# Altium footprint library Smoothie_new_12_02.PcbLib: 39 footprints (part 1 of 3)
Each footprint in its own frame and in the unit in brackets; x right, y up, seen from the top. Pads: shape width x height; smd on the part's side, far side on the other; paste and mask are expansions set on the pad; w line width, h text height; cw(c..) or ccw(c..) is an arc to the next point about the centre after c.
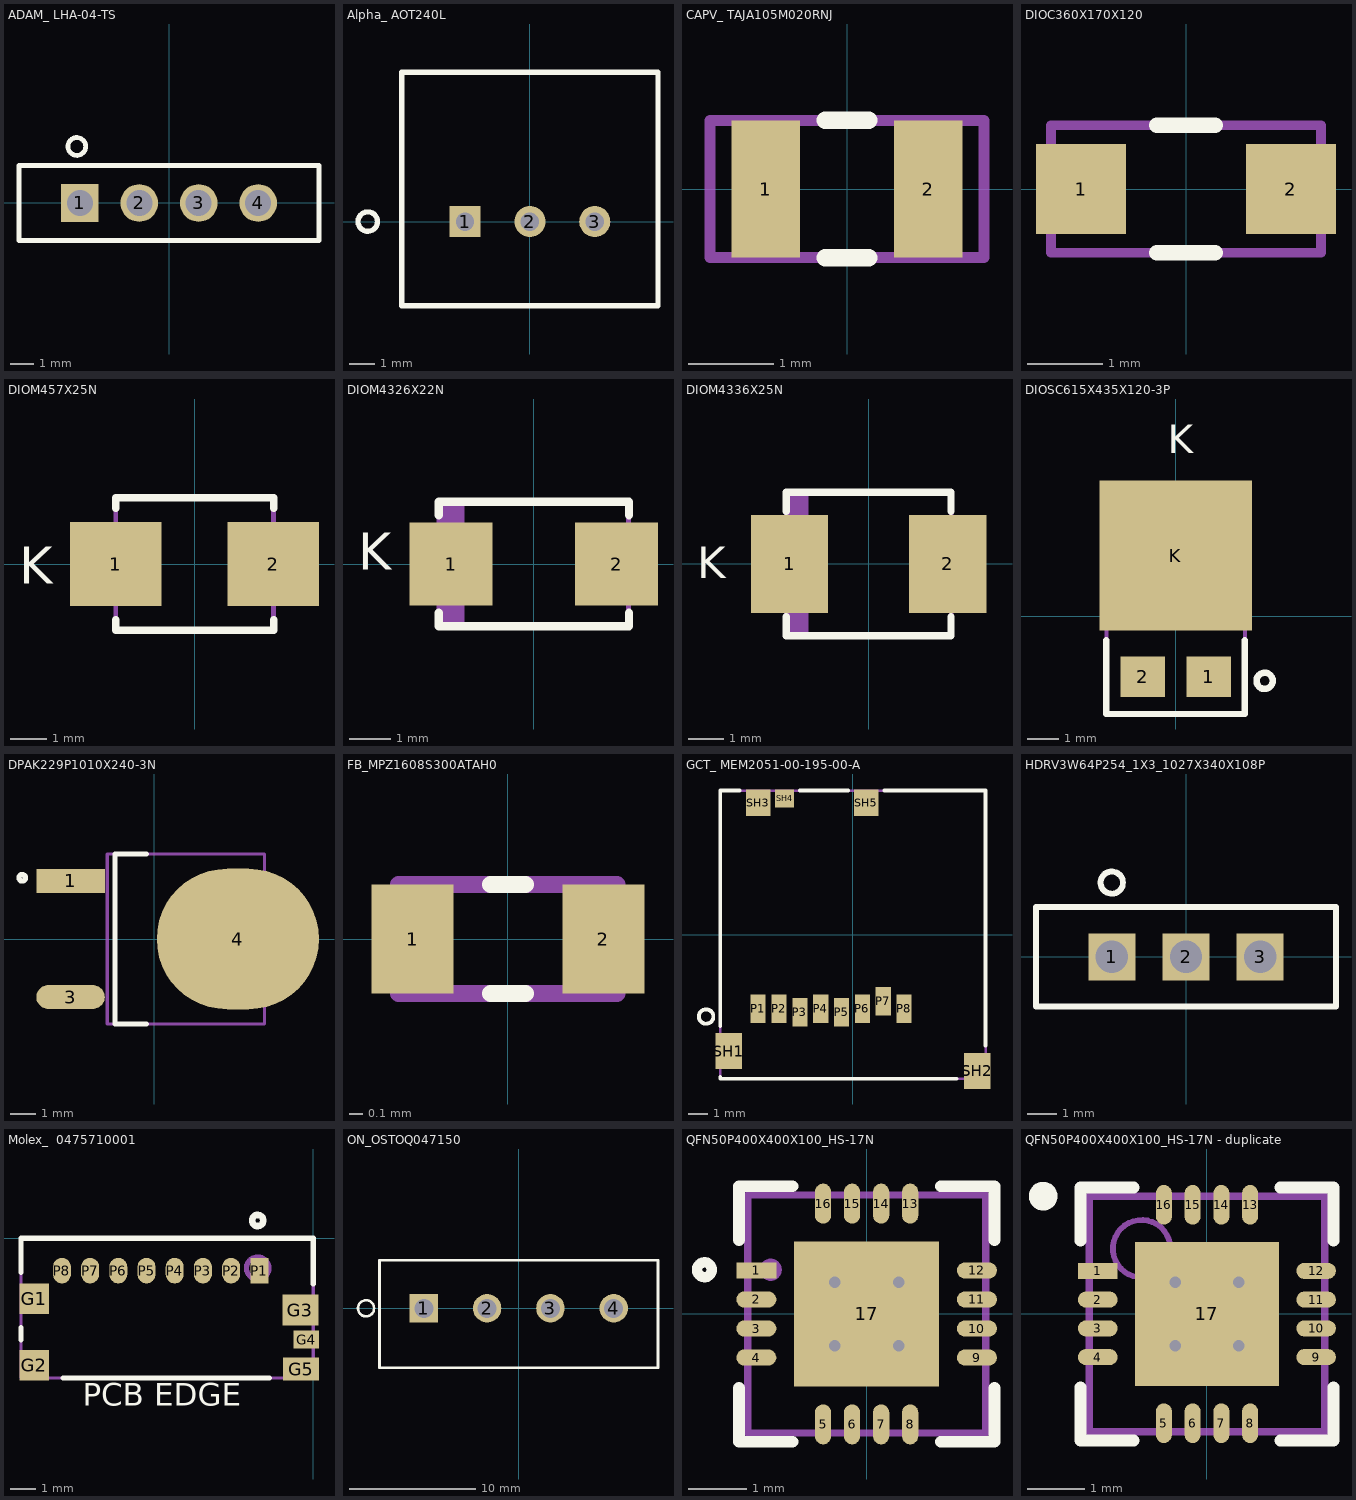
[diagram p0: the footprints below, top view; thin cyan lines are the x and y axes]

## ADAM_ LHA-04-TS [mm]
height 3.2
pads (4):
  rect 1.61x1.61 hole 1.11: 1(-3.81,0)
  round 1.61 hole 1.11: 2(-1.27,0) 3(1.27,0) 4(3.81,0)
Top Overlay:
  circle w0.203: c-3.937,2.413 r0.381
  lines w0.203: -6.405,-1.6 -6.405,1.6 6.405,1.6 6.405,-1.6 -6.405,-1.6
Mechanical 1:
  text "'.Designator'" at 0,0 h1.52
Mechanical 15:
  circle w0.127: c-3.81,0 r0.508
  lines w0.127: -6.405,-1.6 6.405,-1.6 6.405,1.6 -6.405,1.6 -6.405,-1.6
3D body: height 3.2, standoff 0, extent -6.405,-1.6 6.405,1.6

## Alpha_ AOT240L [mm]
height 15.44
pads (3):
  rect 1.22x1.22 hole 0.72: 1(-2.54,0)
  round 1.22 hole 0.72: 2(0,0) 3(2.54,0)
Top Overlay:
  circle w0.203: c-6.35,0 r0.381
  lines w0.203: -5.015,-3.293 -5.015,5.847 5.015,5.847 5.015,-3.293 -5.015,-3.293
Mechanical 1:
  text "'.Designator'" at 0,0 h1.52
Mechanical 15:
  circle w0.127: c-2.54,0 r0.508
  lines w0.127: -5.015,-3.293 5.015,-3.293 5.015,5.847 -5.015,5.847 -5.015,-3.293
3D body: height 15.44, standoff 0, extent -5.015,-3.293 5.015,5.847

## CAPV_ TAJA105M020RNJ [mm]
height 1.8
pads (2):
  rect 0.8x1.6 smd: 1(-0.95,0) 2(0.95,0)
Top Overlay:
  lines w0.203: -0.254,-0.8 0.254,-0.8 ; -0.254,0.8 0.254,0.8
Mechanical 1:
  text "'.Designator'" at 0,0 h1.52
Mechanical 15:
  lines w0.127: -1.6,-0.8 1.6,-0.8 1.6,0.8 -1.6,0.8 -1.6,-0.8
3D body: height 1.8, standoff 0, extent -1.6,-0.8 1.6,0.8

## DIOC360X170X120 [mm]
height 1.2
pads (2):
  rect 1.2x1.2 smd: 1(-1.4,0) 2(1.4,0)
Top Overlay:
  lines w0.203: -0.39,-0.85 0.39,-0.85 ; -0.39,0.85 0.39,0.85
Mechanical 1:
  text "'.Designator'" at 0,0 h1.52
Mechanical 15:
  lines w0.127: -1.8,-0.85 -1.8,0.85 1.8,0.85 1.8,-0.85 -1.8,-0.85
3D body: height 1.2, standoff 0, extent -1.8,-0.85 1.8,0.85

## DIOM457X25N [mm] "Molded Diode, 2-Leads, Body 4.33x3.63mm, IPC Medium Density"
height 2.5
pads (2):
  rect 2.5x2.3 smd: 1(-2.15,0) 2(2.15,0)
Top Overlay:
  lines w0.203: -2.157,-1.524 -2.157,-1.81 2.157,-1.81 2.157,-1.524 ; -2.157,1.524 -2.157,1.81 2.157,1.81 2.157,1.524
  text "K" at -4.8,-0.54 h1.02
Mechanical 1:
  text ".Designator" at 0,0 h1.52
Mechanical 15:
  lines w0.127: -2.157,-1.81 -2.157,1.81 2.157,1.81 2.157,-1.81 -2.157,-1.81
  text "K" at -4.8,-0.54 h1.5
3D body: height 2.47, standoff 0, extent -2.15,-1.81 2.15,1.81

## DIOM4326X22N [mm] "Molded Diode, 2-Leads, Body 4.31x2.60mm, IPC Medium Density"
height 2.2
pads (2):
  rect 2x2 smd: 1(-2,0) 2(2,0)
Top Overlay:
  lines w0.203: -2.3,-1.177 -2.3,-1.5 2.3,-1.5 2.3,-1.177 ; -2.3,1.177 -2.3,1.5 2.3,1.5 2.3,1.177
  text "K" at -4.25,-0.425 h1.52
Mechanical 1:
  text "'.Designator'" at 0,0 h1.52
Mechanical 15:
  rectangle: -2.285,-1.46 -1.67,1.46
  lines w0.127: -2.285,-1.46 -2.285,1.46 2.285,1.46 2.285,-1.46 -2.285,-1.46
3D body "DIOM4326X22N.step": height 2.2, standoff 0, extent -2.505,-1.46 2.505,1.46

## DIOM4336X25N [mm] "Molded Diode, 2-Leads, Body 4.33x3.63mm, IPC Medium Density"
height 2.47
pads (2):
  rect 2.159x2.743 smd: 1(-2.21,0) 2(2.21,0)
Top Overlay:
  lines w0.203: -2.3,-1.477 -2.3,-2 2.3,-2 2.3,-1.477 ; -2.3,1.477 -2.3,2 2.3,2 2.3,1.477
  text "K" at -4.795,-0.685 h1.52
Mechanical 1:
  text "'.Designator'" at 0,0 h1.52
Mechanical 15:
  rectangle: -2.3,-1.975 -1.681,1.975
  lines w0.127: -2.3,-1.975 2.3,-1.975 2.3,1.975 -2.3,1.975 -2.3,-1.975
3D body "DIOM4336X25N.step": height 2.47, standoff 0, extent -2.52,-1.975 2.52,1.975

## DIOSC615X435X120-3P [mm]
height 1.2
pads (3):
  rect 1.4x1.27 smd: 1(1.04,-1.903) 2(-1.04,-1.903)
  rect 4.8x4.72 smd: K(0,1.903)
Top Overlay:
  circle w0.203: c2.794,-2.032 r0.254
  lines w0.203: -2.175,-0.762 -2.175,-3.075 2.175,-3.075 2.175,-0.762
  text "K" at -0.254,4.826 h1.52
Mechanical 1:
  text "'.Designator'" at 0,0 h1.52
Mechanical 15:
  circle w0.127: c1.016,-1.905 r0.381
  lines w0.127: -2.175,-3.075 -2.175,3.075 2.175,3.075 2.175,-3.075 -2.175,-3.075
  text "K" at -0.254,4.826 h1.52
3D body: height 1.2, standoff 0, extent -2.175,-3.075 2.175,3.075

## DPAK229P1010X240-3N [mm] "D-PAK, 3-Pads, Body 6.20x6.71mm (max), IPC Medium Density"
height 2.4
pads (3):
  rect 2.7x0.95 smd: 1(-3.3,2.29)
  oval 2.7x0.95 smd: 3(-3.3,-2.29)
  oval 6.4x5.55 smd: 4(3.3,0)
Top Overlay:
  circle w0.203: c-5.207,2.413 r0.127
  lines w0.203: -0.3,-3.35 -1.55,-3.35 -1.55,3.35 -0.3,3.35
Mechanical 1:
  text "'.Designator'" at 0,0 h1.52
Mechanical 15:
  circle w0.127: c-3.3,2.29 r0.254
  lines w0.127: -1.85,-3.35 -1.85,3.35 4.35,3.35 4.35,-3.35 -1.85,-3.35
3D body "DPAK229P1010X240-3N.step": height 2.4, standoff 0, extent -4,-3.35 6.1,3.35

## FB_MPZ1608S300ATAH0 [mm]
height 0.95
pads (2):
  rect 0.6x0.8 smd: 1(-0.7,0) 2(0.7,0)
Top Overlay:
  lines w0.127: -0.127,-0.4 0.127,-0.4 ; -0.127,0.4 0.127,0.4
Mechanical 13:
  text "'.Designator'" at 0,0 h1.52
Mechanical 15:
  lines w0.127: -0.8,-0.4 0.8,-0.4 0.8,0.4 -0.8,0.4 -0.8,-0.4
3D body: height 0.95, standoff 0, extent -0.8,-0.4 0.8,0.4

## GCT_ MEM2051-00-195-00-A [mm]
height 2.05
pads (13):
  rect 0.8x1.5 smd: P1(-5,-3.897) P2(-3.9,-3.897) P3(-2.8,-4.097) P4(-1.7,-3.897) P5(-0.6,-4.097) P6(0.5,-3.897) P7(1.6,-3.497) P8(2.7,-3.897)
  rect 1.4x1.9 smd: SH1(-6.55,-6.14) SH2(6.55,-7.187)
  rect 1.3x1.4 smd: SH3(-5,6.963) SH5(0.7,6.963)
  rect 1x0.95 smd: SH4(-3.61,7.187)
Top Overlay:
  circle w0.203: c-7.747,-4.318 r0.381
  lines w0.203: -7,-7.493 -7,-7.6 5.461,-7.6 ; -7,-4.826 -7,7.6 -5.969,7.6 ; -2.794,7.6 -0.254,7.6 ; 1.651,7.6 7,7.6 7,-5.842
Mechanical 1:
  text "'.Designator'" at 0,0 h1.52
Mechanical 15:
  circle w0.127: c-5,-3.897 r0.254
  lines w0.127: -7,-7.6 7,-7.6 7,7.6 -7,7.6 -7,-7.6
3D body: height 2.05, standoff 0, extent -7,-7.6 7,7.6

## HDRV3W64P254_1X3_1027X340X108P [mm]
height 10.8
pads (3):
  rect 1.61x1.61 hole 1.11: 1(-2.54,0) 2(0,0) 3(2.54,0)
Top Overlay:
  circle w0.203: c-2.54,2.54 r0.381
  lines w0.203: -5.135,-1.7 5.135,-1.7 5.135,1.7 -5.135,1.7 -5.135,-1.7
Mechanical 1:
  text "'.Designator'" at 0,0 h1.52
Mechanical 15:
  circle w0.127: c-2.54,0 r0.381
  lines w0.127: -5.135,-1.7 -5.135,1.7 5.135,1.7 5.135,-1.7 -5.135,-1.7
3D body: height 10.8, standoff 0, extent -5.135,-1.7 5.135,1.7

## Molex_  0475710001 [mm]
height 2.3
pads (13):
  rect 1.15x1.2 smd: G1(-10.88,-2.36) G2(-10.88,-4.95)
  rect 1.4x1.2 smd: G3(-0.5,-2.8)
  rect 1x0.7 smd: G4(-0.275,-3.95)
  rect 1.4x0.9 smd: G5(-0.475,-5.1)
  rect 0.7x1 smd: P1(-2.105,-1.26)
  oval 0.7x1 smd: P2(-3.205,-1.26) P3(-4.305,-1.26) P4(-5.405,-1.26) P5(-6.505,-1.26) P6(-7.605,-1.26) P7(-8.705,-1.26) P8(-9.805,-1.26)
Top Overlay:
  circle w0.254: c-2.168,0.695 r0.219
  lines w0.203: -11.4,-3.955 -11.4,-3.49 ; -11.4,-1.32 -11.4,0 0,0 0,-1.785 ; -9.765,-5.45 -1.705,-5.45
  text "PCB EDGE" at -8.99,-6.82 h1.52
Mechanical 1:
  text "'.Designator'" at -5.578,-3.18 h1.52
Mechanical 15:
  circle w0.203: c-2.168,-1.165 r0.438
  lines w0.127: -11.4,-5.45 0,-5.45 0,0 -11.4,0 -11.4,-5.45
  text "PCB EDGE" at -8.99,-6.82 h1.52
3D body "475710001.stp": height -0.42, standoff -2.71, extent -11.268,-5.325 0.133,0.125

## ON_OSTOQ047150 [mm]
height 12
pads (4):
  rect 2.25x2.25 hole 1.5: 1(-7.5,0)
  round 2.25 hole 1.5: 2(-2.5,0) 3(2.5,0) 4(7.5,0)
Top Overlay:
  circle w0.203: c-12.065,0 r0.635
  lines w0.203: -11,-4.7 11,-4.7 11,3.8 -11,3.8 -11,-4.7
Mechanical 1:
  text "'.Designator'" at 0,0 h1.52
Mechanical 15:
  circle w0.127: c-7.5,0 r0.762
  lines w0.127: -11,-4.7 -11,3.8 11,3.8 11,-4.7 -11,-4.7
3D body: height 12, standoff 0, extent -11,-4.7 11,3.8

## QFN50P400X400X100_HS-17N [mm] "QFN, 16-Leads, Body 4.00x4.00mm, Pitch 0.50mm, Thermal Pad 2.50x2.50mm, IPC Medium Density"
height 1
pads (17):
  rect 0.69x0.28 smd: 1(-1.9,0.75)
  oval 0.69x0.28 smd: 2(-1.9,0.25) 3(-1.9,-0.25) 4(-1.9,-0.75) 9(1.9,-0.75) 10(1.9,-0.25) 11(1.9,0.25) 12(1.9,0.75)
  oval 0.28x0.69 smd: 5(-0.75,-1.9) 6(-0.25,-1.9) 7(0.25,-1.9) 8(0.75,-1.9) 13(0.75,1.9) 14(0.25,1.9) 15(-0.25,1.9) 16(-0.75,1.9)
  rect 2.5x2.5 smd: 17(0,0)
via -0.55,0.55 diameter 0.5 hole 0.2
via 0.55,0.55 diameter 0.5 hole 0.2
via -0.55,-0.55 diameter 0.5 hole 0.2
via 0.55,-0.55 diameter 0.5 hole 0.2
Top Overlay:
  circle w0.178: c-2.794,0.762 r0.127
  lines w0.203: -2.2,-1.277 -2.2,-2.2 -1.277,-2.2 ; -2.2,1.277 -2.2,2.2 -1.277,2.2 ; 1.277,-2.2 2.2,-2.2 2.2,-1.277 ; 1.277,2.2 2.2,2.2 2.2,1.277
Mechanical 1:
  text "'.Designator'" at 0,0 h1.52
Mechanical 15:
  circle w0.127: c-1.651,0.762 r0.127
  lines w0.127: -2.05,-2.05 -2.05,2.05 2.05,2.05 2.05,-2.05 -2.05,-2.05
3D body "QFN50P400X400X100_HS-17N.step": height 1, standoff 0, extent -2.051,-2.051 2.051,2.051

## QFN50P400X400X100_HS-17N - duplicate [mm] "QFN, 16-Leads, Body 4.00x4.00mm, Pitch 0.50mm, Thermal Pad 2.50x2.50mm, IPC Medium Density"
height 1
pads (17):
  rect 0.69x0.28 smd: 1(-1.9,0.75)
  oval 0.69x0.28 smd: 2(-1.9,0.25) 3(-1.9,-0.25) 4(-1.9,-0.75) 9(1.9,-0.75) 10(1.9,-0.25) 11(1.9,0.25) 12(1.9,0.75)
  oval 0.28x0.69 smd: 5(-0.75,-1.9) 6(-0.25,-1.9) 7(0.25,-1.9) 8(0.75,-1.9) 13(0.75,1.9) 14(0.25,1.9) 15(-0.25,1.9) 16(-0.75,1.9)
  rect 2.5x2.5 smd: 17(0,0)
via 0.55,-0.55 diameter 0.5 hole 0.2
via -0.55,-0.55 diameter 0.5 hole 0.2
via 0.55,0.55 diameter 0.5 hole 0.2
via -0.55,0.55 diameter 0.5 hole 0.2
Top Overlay:
  circle w0.25: c-2.85,2.05 r0.125
  lines w0.203: -2.2,-1.277 -2.2,-2.2 -1.277,-2.2 ; -2.2,1.277 -2.2,2.2 -1.277,2.2 ; 1.277,-2.2 2.2,-2.2 2.2,-1.277 ; 1.277,2.2 2.2,2.2 2.2,1.277
Mechanical 1:
  text "'.Designator'" at 0,0 h1.52
Mechanical 15:
  circle w0.1: c-1.136,1.136 r0.5
  lines w0.127: -2.05,-2.05 2.05,-2.05 2.05,2.05 -2.05,2.05 -2.05,-2.05
3D body "QFN50P400X400X100_HS-17N.step": height 1, standoff 0, extent -2.051,-2.051 2.051,2.051